# Altium integrated library mosfets.IntLib: 6 symbols
Pins are listed as number, name and electrical type; pins without a type are passive.

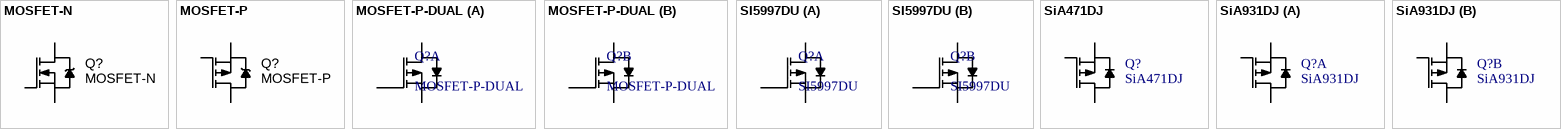
[diagram p0: symbols MOSFET-N to SiA931DJ]

## MOSFET-N
designator Q?
footprint SOT669
pins: D, G, S

## MOSFET-P
designator Q?
footprint SOT669
pins: D, G, S

## MOSFET-P-DUAL
designator Q?
MOSFET, DUAL P-CHANNEL, SO-8
footprint SOIC-8-DUAL-MOSFET
part A pins: D1, G1, S1
part B pins: D2, G2, S2

## SI5997DU
designator Q?
MOSFET, DUAL P-CHANNEL, 30Vin, 6A, 0.054R, SI5997DU-T1-GE3, PowerPAK ChipFET Dual; Manufacturer: Vishay Siliconix; Rds On Max: 54mR; Max Power Dissipation: 10.4W; Drain to Source Voltage (Vdss): -30V; Continuous Drain Current (ID): 5.1A; Gate to Source Voltage (Vgs): 20V; Power Dissipation: 2.3W; Threshold Voltage: -1.2V; Supplier 1: Farnell; Manufacturer Part Number: SI5997DU-T1-GE3; Element Configuration: Dual; ComponentLink1URL: https://datasheet.ciiva.com/11159/si5997du-11159553.pdf; ComponentLink1Description: Datasheet; Supplier 2: Mouser; Supplier Part Number 1: 2056727; Supplier Part Number 2: 78-SI5997DU-T1-GE3
footprint POWERPAK-CHIPFET-DUAL
part A pins: D1, G1, S1
part B pins: D2, G2, S2

## SiA471DJ
designator Q?
footprint VISHAY_PowerPAK_SC70-6L_SINGLE (SON, 6-Leads, Body 2,07x2,07mm, Pitch 0,65mm, IPC Medium Density)
pins: D, G, S

## SiA931DJ
designator Q?
footprint VISHAY_PowerPAK_SC70-6L (SON, 6-Leads, Body 2,07x2,07mm, Pitch 0,65mm, IPC Medium Density)
part A pins: D1, G1, S1
part B pins: D2, G2, S2